# EAGLE library part AK130/11 (library PTR_AK130)
ANSCHLUSSKLEMME AK130 (11POLIG)
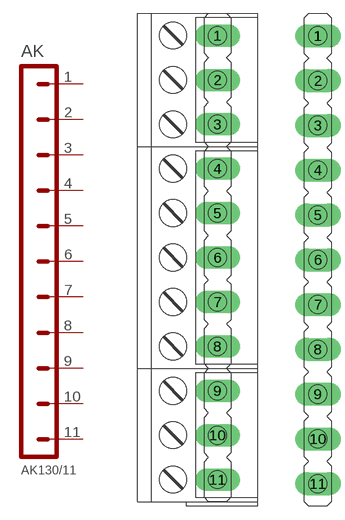
[diagram p5: symbol with the pads of AK11; footprints AK11, STL11]

Designator prefix AK

## AK130/11  [AK11]
1  P$1
2  P$2
3  P$3
4  P$4
5  P$5
6  P$6
7  P$7
8  P$8
9  P$9
10  P$10
11  P$11

## AK130/11_STL  [STL11]
Pads as for AK11

## Footprint AK11 (pad centres in mm)
AK130 (11POLIG) 2x AK130/3-5.0-GRAU 1x AK130/5-5.0-GRAU STL130/24-5.0-V-SCHWARZ
drill 1.5 pad 2.54 long: 1 0,25; 2 0,20; 3 0,15; 4 0,10; 5 0,5; 6 0,0; 7 0,-5; 8 0,-10; 9 0,-15; 10 0,-20; 11 0,-25

## Footprint STL11 (pad centres in mm)
STL130 (11POLIG) STL130/24-5.0-V-SCHWARZ
drill 1.5 pad 2.54 long: 1 0,25; 2 0,20; 3 0,15; 4 0,10; 5 0,5; 6 0,0; 7 0,-5; 8 0,-10; 9 0,-15; 10 0,-20; 11 0,-25